# EAGLE library part MICRO-SD-CARD-ST-TF-003A (library mille-feuille)
MicorSD card folder. ST-TF-003A
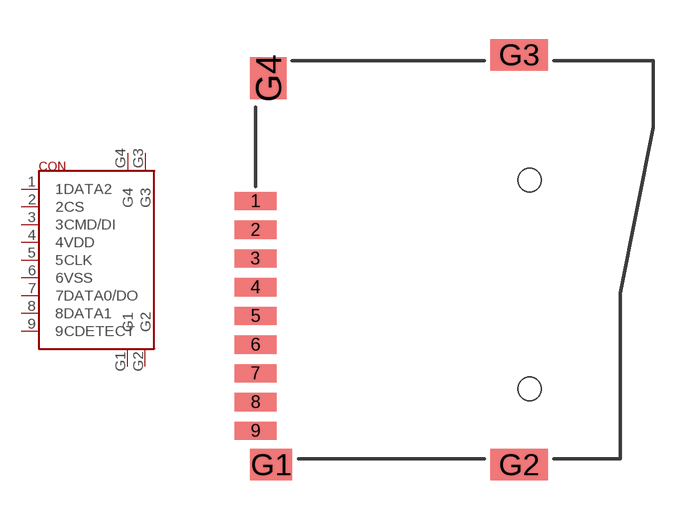
[diagram p39: symbol with the pads of MICRO-SD_9PIN-SMD; footprint MICRO-SD_9PIN-SMD]

Designator prefix CON

## MICRO-SD-CARD-ST-TF-003A  [MICRO-SD_9PIN-SMD]
1  1DATA2
2  2CS
3  3CMD/DI
4  4VDD
5  5CLK
6  6VSS
7  7DATA0/DO
8  8DATA1
9  9CDETECT
G1  G1
G2  G2
G3  G3
G4  G4

## Footprint MICRO-SD_9PIN-SMD (pad centres in mm)
smd 1.6 x 0.7: 1 -7.62,2.25; 2 -7.62,1.15; 3 -7.62,0.05; 4 -7.62,-1.05; 5 -7.62,-2.15; 6 -7.62,-3.25; 7 -7.62,-4.35; 8 -7.62,-5.45; 9 -7.62,-6.55
smd 1.6 x 1.2: G1 -7.02,-7.85
smd 2.2 x 1.2: G2 2.48,-7.85; G3 2.48,7.85
smd 1.4 x 1.6: G4 -7.12,6.95
hole 0.9 at 2.88,-4.95
hole 0.9 at 2.88,3.05